# Altium integrated library TI_Logic_Gate.IntLib: 2017 symbols (part 56 of 56)
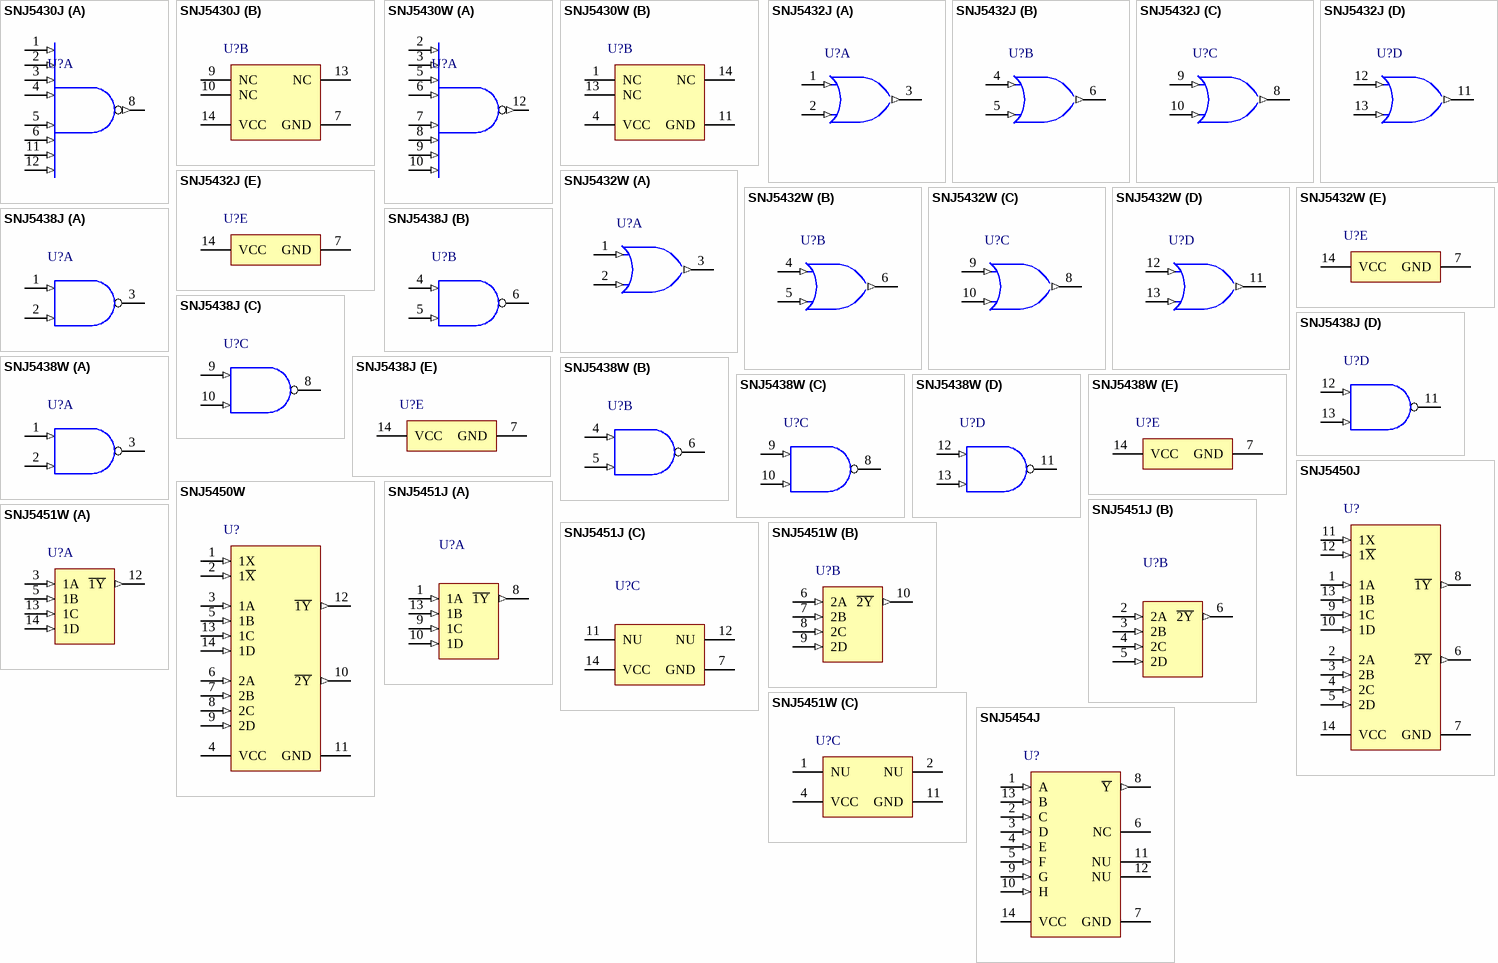
[diagram p280: symbols SNJ5430J to SNJ5454J]

## SNJ5454J
designator U?
4-Wide AND-OR-invert Gates, J0014A, TUBE; Generic Part Number: SN5454; Manufacturer: Texas Instruments; PartNumber: SNJ5454J; VCC(Min)(V): 4.5; VCC(Max)(V): 5.5; Output Type: TTL; Bits(#): 1; Rating: Military; Schmitt Trigger: No; Output Drive (IOL/IOH)(Max)(mA): -0.4/16; tpd @ Nom Voltage(Max)(ns): 22; DatasheetVersion: SDLS115; PackageReference: J0014A; Input Type: TTL; Operating Temperature Range(C): -55 to 125; Technology Family: TTL; ComponentLink1Description: Manufacturer URL; ComponentLink1URL: http://www.ti.com/; ComponentLink2Description: Datasheet; ComponentLink2URL: http://www.ti.com/lit/ds/symlink/sn5454.pdf; ComponentLink3Description: Package Specification; ComponentLink3URL: http://www.ti.com/lit/ml/mcer002d/mcer002d.pdf
footprint J0014A (DIP, 14-Leads, Body 19.95x7.2mm, Pitch 2.54mm)
pins: 1 A (in), 2 C (in), 3 D (in), 4 E (in), 5 F (in), 6 NC, 7 GND (power), 8 ~{Y} (out), 9 G (in), 10 H (in), 11 NU, 12 NU, 13 B (in), 14 VCC (power)